# EAGLE library part SN74CBTLV3126PW (library SN74CBTLV3126PW)
Texas Instruments SN74CBTLV3126PW, Bus Switch, 1 x 1:1, 2.3 3.6 V, 14-Pin TSSOP Source: Datasheet <http://www.ti.com/lit/gpn/SN74CBTLV3126>
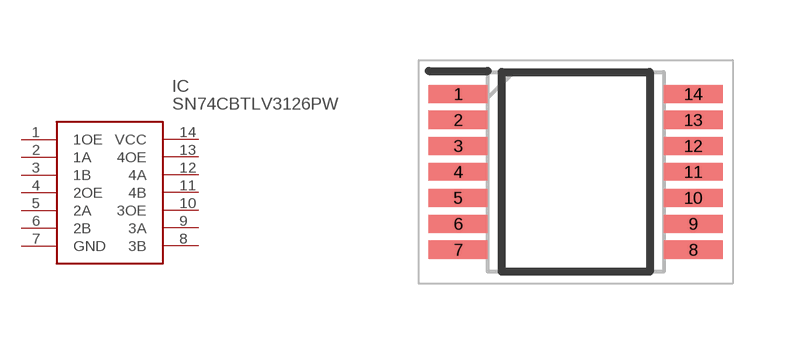
[diagram p0: symbol with the pads of SOP65P640X120-14N; footprint SOP65P640X120-14N]

Designator prefix IC

## SN74CBTLV3126PW (DESCRIPTION: Texas Instruments SN74CBTLV3126PW, Bus Switch, 1 x 1:1, 2.3 3.6 V, 14-Pin TSSOP; HEIGHT: 1.2mm; MANUFACTURER_NAME: Texas Instruments; MANUFACTURER_PART_NUMBER: SN74CBTLV3126PW; MOUSER_PART_NUMBER: 595-SN74CBTLV3126PW; MOUSER_PRICE-STOCK: https://www.mouser.co.uk/ProductDetail/Texas-Instruments/SN74CBTLV3126PW?qs=mE33ZKBHyE6FyZzkaaziWg%3D%3D)  [SOP65P640X120-14N]
1  1OE
2  1A
3  1B
4  2OE
5  2A
6  2B
7  GND
8  3B
9  3A
10  3OE
11  4B
12  4A
13  4OE
14  VCC

## Footprint SOP65P640X120-14N (pad centres in mm)
PW (R-PDSO-G14)
smd 1.475 x 0.45: 1 -2.938,1.95; 2 -2.938,1.3; 3 -2.938,0.65; 4 -2.938,0; 5 -2.938,-0.65; 6 -2.938,-1.3; 7 -2.938,-1.95; 8 2.938,-1.95; 9 2.938,-1.3; 10 2.938,-0.65; 11 2.938,0; 12 2.938,0.65; 13 2.938,1.3; 14 2.938,1.95